# EAGLE library part NACHTELK_HEADERCONNECTORS_6 (library NachtElk_HeaderConnectors)
Nacht Elk. - Header Connectors Ekrem Turan Fırat Nacht Elk. - Header Connectors 1x6 Female or Male Pin Spacing: 2.54mm Mount Type: DIP Operating Temperature: -40°C up to 105°C 17.02.2022
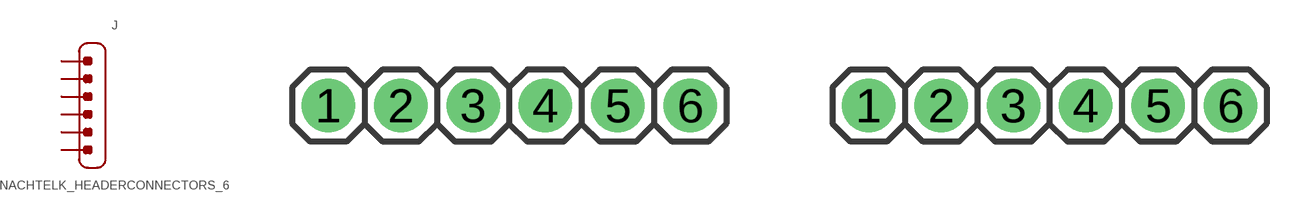
[diagram p12: symbol with the pads of HEADER_1X6; footprints HEADER_1X6, HEADER_1X6F]

Designator prefix J

## NACHTELK_HEADERCONNECTORS_6_MALE (MOUNT-TYPE: DIP; TEMPERATURE: -40°C up to 105°C; TYPE: Male; VALUE: 1x6)  [HEADER_1X6]
1  P$1
2  P$2
3  P$3
4  P$4
5  P$5
6  P$6

## NACHTELK_HEADERCONNECTORS_6_FEMALE (MOUNT-TYPE: DIP; TEMPERATURE: -40°C up to 105°C; TYPE: Female; VALUE: 1x6)  [HEADER_1X6F]
Pads as for HEADER_1X6

## Footprint HEADER_1X6 (pad centres in mm)
Nacht Elk. - Header Connectors Ekrem Turan Fırat 17.02.2022
drill 1.016 pad 1.88: 1 0,0; 2 2.54,0; 3 5.08,0; 4 7.62,0; 5 10.16,0; 6 12.7,0

## Footprint HEADER_1X6F (pad centres in mm)
Nacht Elk. - Header Connectors Ekrem Turan Fırat 17.02.2022
drill 1.016 pad 1.88: 1 0,0; 2 2.54,0; 3 5.08,0; 4 7.62,0; 5 10.16,0; 6 12.7,0